# EAGLE library part LM3914V/NOPB (library eagle-library-engr-245-s22)
LED, LCD, Vacuum Fluorescent (VF) Driver 20-PLCC (9x9)
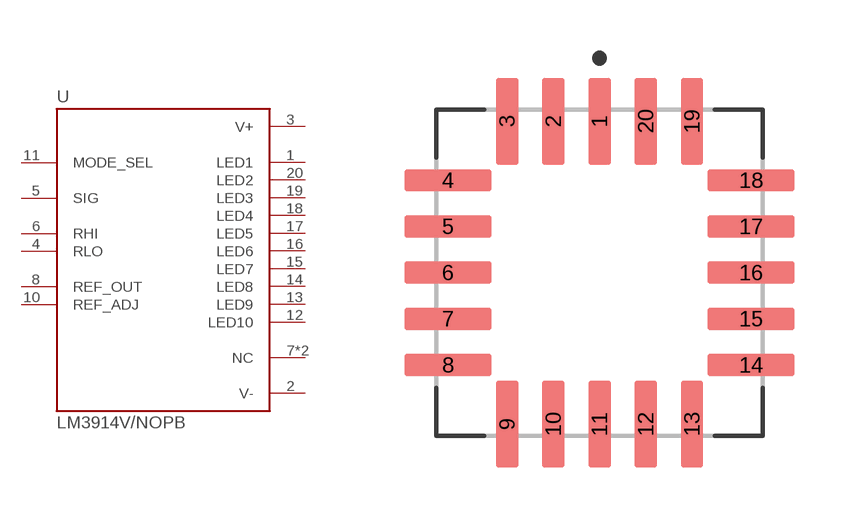
[diagram p14: symbol with the pads of PLCC127P990X990X457-20N; footprint PLCC127P990X990X457-20N]

Designator prefix U

## LM3914V/NOPB (DESCRIPTION: Dot/Bar Display Driver 20-PLCC 0 to 70; DIGI-KEY_PART_NUMBER: LM3914V/NOPB-ND; MF: Texas Instruments; MP: LM3914V/NOPB; PACKAGE: PLCC-20 Texas Instruments; PURCHASE-URL: https://pricing.snapeda.com/search/part/LM3914V/NOPB/?ref=eda)  [PLCC127P990X990X457-20N]
1  LED1  out
2  V-  pwr
3  V+  pwr
4  RLO  pas
5  SIG  in
6  RHI  pas
7  NC  nc
8  REF_OUT  out
9  NC  nc
10  REF_ADJ  pas
11  MODE_SEL  in
12  LED10  out
13  LED9  out
14  LED8  out
15  LED7  out
16  LED6  out
17  LED5  out
18  LED4  out
19  LED3  out
20  LED2  out

## Footprint PLCC127P990X990X457-20N (pad centres in mm)
smd 0.62 x 2.4: 1 0,4.165; 2 -1.27,4.165; 3 -2.54,4.165; 9 -2.54,-4.165; 10 -1.27,-4.165; 11 0,-4.165; 12 1.27,-4.165; 13 2.54,-4.165; 19 2.54,4.165; 20 1.27,4.165
smd 2.4 x 0.62: 4 -4.165,2.54; 5 -4.165,1.27; 6 -4.165,0; 7 -4.165,-1.27; 8 -4.165,-2.54; 14 4.165,-2.54; 15 4.165,-1.27; 16 4.165,0; 17 4.165,1.27; 18 4.165,2.54